# Altium schematic symbol library symbols.SchLib: 16 symbols
Pins are listed as number, name and electrical type; pins without a type are passive.

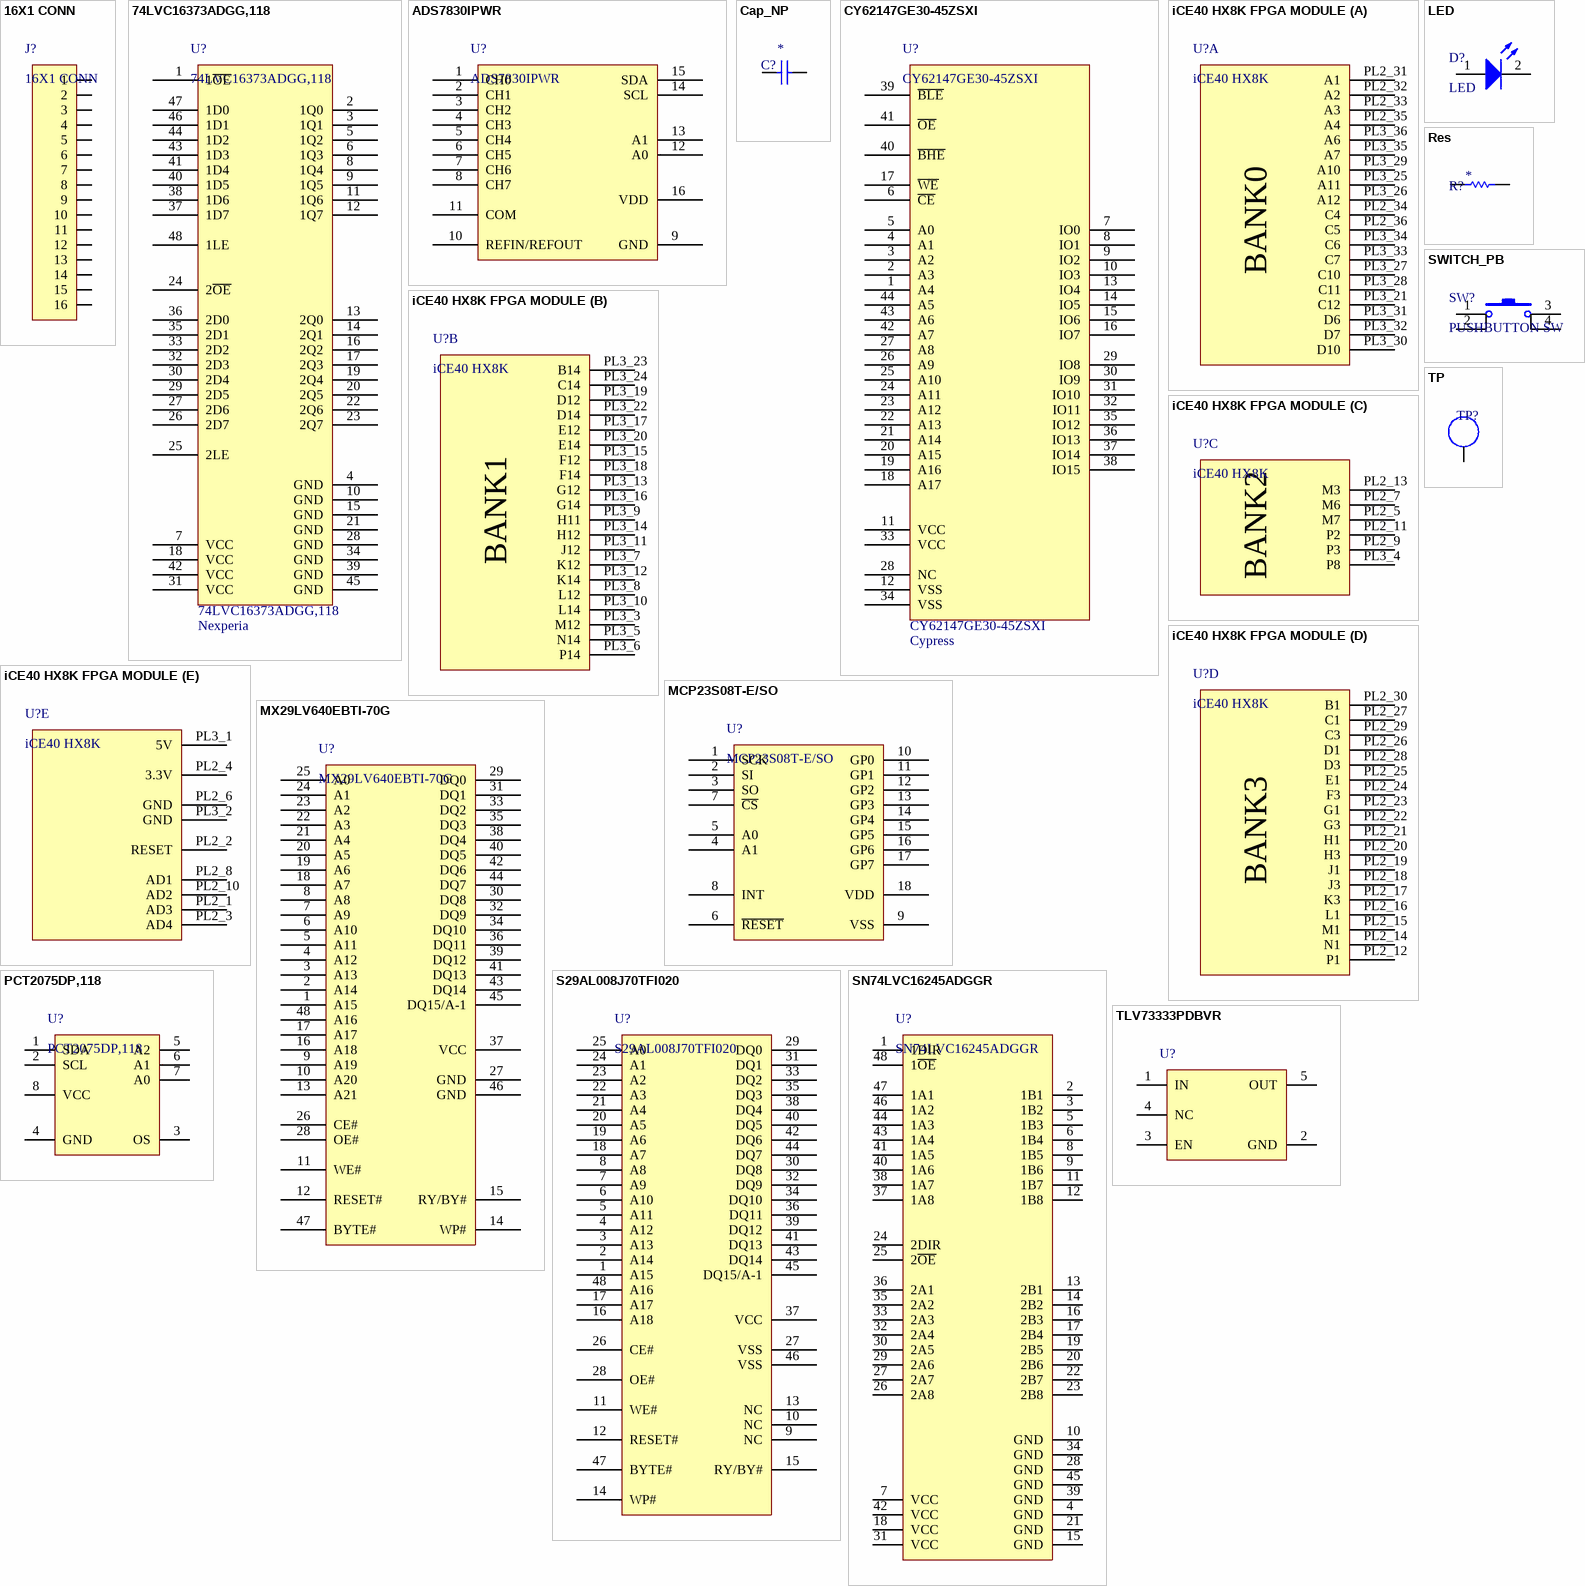
[diagram p0: symbols 16X1 CONN to TP]

## 16X1 CONN
designator J?
Manufacturer PN: *; Manufacturer: *
pins: 1, 2, 3, 4, 5, 6, 7, 8, 9, 10, 11, 12, 13, 14, 15, 16

## 74LVC16373ADGG,118
designator U?  Manufacturer: Nexperia
D-Type Transparent Latch 2 Channel 8:8 IC Tri-State 48-TSSOP; Manufacturer PN: 74LVC16373ADGG,118
pins: 1 1~{OE}, 2 1Q0, 3 1Q1, 4 GND, 5 1Q2, 6 1Q3, 7 VCC, 8 1Q4, 9 1Q5, 10 GND, 11 1Q6, 12 1Q7, 13 2Q0, 14 2Q1, 15 GND, 16 2Q2, 17 2Q3, 18 VCC, 19 2Q4, 20 2Q5, 21 GND, 22 2Q6, 23 2Q7, 24 2~{OE}, 25 2LE, 26 2D7, 27 2D6, 28 GND, 29 2D5, 30 2D4, 31 VCC, 32 2D3, 33 2D2, 34 GND, 35 2D1, 36 2D0, 37 1D7, 38 1D6, 39 GND, 40 1D5, 41 1D4, 42 VCC, 43 1D3, 44 1D2, 45 GND, 46 1D1, 47 1D0, 48 1LE

## ADS7830IPWR
designator U?
Manufacturer: Texas Instruments; Manufacturer PN: ADS7830IPWR
pins: 1 CH0, 2 CH1, 3 CH2, 4 CH3, 5 CH4, 6 CH5, 7 CH6, 8 CH7, 9 GND, 10 REFIN/REFOUT, 11 COM, 12 A0, 13 A1, 14 SCL, 15 SDA, 16 VDD

## Cap_NP
designator C?
Capacitor; Manufacturer PN: *; Manufacturer: *; Voltage: *; Tolerance: *; Capacitance: *
pins: 1, 2

## CY62147GE30-45ZSXI
designator U?  Manufacturer: Cypress
SRAM - Asynchronous Memory IC 4Mb (256K x 16) Parallel 45ns 44-TSOP II; Manufacturer PN: CY62147GE30-45ZSXI
pins: 1 A4, 2 A3, 3 A2, 4 A1, 5 A0, 6 ~{CE}, 7 IO0, 8 IO1, 9 IO2, 10 IO3, 11 VCC, 12 VSS, 13 IO4, 14 IO5, 15 IO6, 16 IO7, 17 ~{WE}, 18 A17, 19 A16, 20 A15, 21 A14, 22 A13, 23 A12, 24 A11, 25 A10, 26 A9, 27 A8, 28 NC, 29 IO8, 30 IO9, 31 IO10, 32 IO11, 33 VCC, 34 VSS, 35 IO12, 36 IO13, 37 IO14, 38 IO15, 39 ~{BLE}, 40 ~{BHE}, 41 ~{OE}, 42 A7, 43 A6, 44 A5

## iCE40 HX8K FPGA MODULE
designator U?, comment iCE40 HX8K
Manufacturer PN: 2EA SQW-118-01-L-D; Manufacturer: Samtec
part A pins: PL2_31 A1, PL2_32 A2, PL2_33 A3, PL2_34 C4, PL2_35 A4, PL2_36 C5, PL3_21 C12, PL3_25 A11, PL3_26 A12, PL3_27 C10, PL3_28 C11, PL3_29 A10, PL3_30 D10, PL3_31 D6, PL3_32 D7, PL3_33 C7, PL3_34 C6, PL3_35 A7, PL3_36 A6
part B pins: PL3_3 M12, PL3_5 N14, PL3_6 P14, PL3_7 K12, PL3_8 L12, PL3_9 H11, PL3_10 L14, PL3_11 J12, PL3_12 K14, PL3_13 G12, PL3_14 H12, PL3_15 F12, PL3_16 G14, PL3_17 E12, PL3_18 F14, PL3_19 D12, PL3_20 E14, PL3_22 D14, PL3_23 B14, PL3_24 C14
part C pins: PL2_5 M7, PL2_7 M6, PL2_9 P3, PL2_11 P2, PL2_13 M3, PL3_4 P8
part D pins: PL2_12 P1, PL2_14 N1, PL2_15 M1, PL2_16 L1, PL2_17 K3, PL2_18 J3, PL2_19 J1, PL2_20 H3, PL2_21 H1, PL2_22 G3, PL2_23 G1, PL2_24 F3, PL2_25 E1, PL2_26 D1, PL2_27 C1, PL2_28 D3, PL2_29 C3, PL2_30 B1
part E pins: PL2_1 AD3, PL2_2 RESET, PL2_3 AD4, PL2_4 3.3V, PL2_6 GND, PL2_8 AD1, PL2_10 AD2, PL3_1 5V, PL3_2 GND
part A text: BANK0
part B text: BANK1
part C text: BANK2
part D text: BANK3

## LED
designator D?
Manufacturer PN: *; Manufacturer: *; Vf: *; Color: *
pins: 1 A, 2 K

## MCP23S08T-E/SO
designator U?
Manufacturer: Microchip; Manufacturer PN: MCP23S08T-E/SO
pins: 1 SCK, 2 SI, 3 SO, 4 A1, 5 A0, 6 ~{RESET}, 7 ~{CS}, 8 INT, 9 VSS, 10 GP0, 11 GP1, 12 GP2, 13 GP3, 14 GP4, 15 GP5, 16 GP6, 17 GP7, 18 VDD

## MX29LV640EBTI-70G
designator U?
FLASH - NOR Memory IC 8Mb (1M x 8, 512K x 16) Parallel  70ns 48-TSOP; Manufacturer: Macronix; Manufacturer PN: MX29LV640EBTI-70G
pins: 1 A15, 2 A14, 3 A13, 4 A12, 5 A11, 6 A10, 7 A9, 8 A8, 9 A19, 10 A20, 11 WE#, 12 RESET#, 13 A21, 14 WP#, 15 RY/BY#, 16 A18, 17 A17, 18 A7, 19 A6, 20 A5, 21 A4, 22 A3, 23 A2, 24 A1, 25 A0, 26 CE#, 27 GND, 28 OE#, 29 DQ0, 30 DQ8, 31 DQ1, 32 DQ9, 33 DQ2, 34 DQ10, 35 DQ3, 36 DQ11, 37 VCC, 38 DQ4, 39 DQ12, 40 DQ5, 41 DQ13, 42 DQ6, 43 DQ14, 44 DQ7, 45 DQ15/A-1, 46 GND, 47 BYTE#, 48 A16

## PCT2075DP,118
designator U?
Temperature Sensor Digital, Local -55°C ~ 125°C 11 b 8-TSSOP; Manufacturer: NXP; Manufacturer PN: PCT2075DP,118
pins: 1 SDA, 2 SCL, 3 OS, 4 GND, 5 A2, 6 A1, 7 A0, 8 VCC

## Res
designator R?
Resistor; Manufacturer PN: *; Manufacturer: *; Tolerance: *; Power Rating: *; Resistance: *
pins: 1, 2

## S29AL008J70TFI020
designator U?
FLASH - NOR Memory IC 8Mb (1M x 8, 512K x 16) Parallel  70ns 48-TSOP; Manufacturer: Cypress; Manufacturer PN: S29AL008J70TFI020
pins: 1 A15, 2 A14, 3 A13, 4 A12, 5 A11, 6 A10, 7 A9, 8 A8, 9 NC, 10 NC, 11 WE#, 12 RESET#, 13 NC, 14 WP#, 15 RY/BY#, 16 A18, 17 A17, 18 A7, 19 A6, 20 A5, 21 A4, 22 A3, 23 A2, 24 A1, 25 A0, 26 CE#, 27 VSS, 28 OE#, 29 DQ0, 30 DQ8, 31 DQ1, 32 DQ9, 33 DQ2, 34 DQ10, 35 DQ3, 36 DQ11, 37 VCC, 38 DQ4, 39 DQ12, 40 DQ5, 41 DQ13, 42 DQ6, 43 DQ14, 44 DQ7, 45 DQ15/A-1, 46 VSS, 47 BYTE#, 48 A16

## SN74LVC16245ADGGR
designator U?
Transceiver, Non-Inverting 2 Element 8 Bit per Element 3-State Output 48-TSSOP; Manufacturer: Texas Instruments; Manufacturer PN: SN74LVC16245ADGGR
pins: 1 1DIR, 2 1B1, 3 1B2, 4 GND, 5 1B3, 6 1B4, 7 VCC, 8 1B5, 9 1B6, 10 GND, 11 1B7, 12 1B8, 13 2B1, 14 2B2, 15 GND, 16 2B3, 17 2B4, 18 VCC, 19 2B5, 20 2B6, 21 GND, 22 2B7, 23 2B8, 24 2DIR, 25 2~{OE}, 26 2A8, 27 2A7, 28 GND, 29 2A6, 30 2A5, 31 VCC, 32 2A4, 33 2A3, 34 GND, 35 2A2, 36 2A1, 37 1A8, 38 1A7, 39 GND, 40 1A6, 41 1A5, 42 VCC, 43 1A4, 44 1A3, 45 GND, 46 1A2, 47 1A1, 48 1~{OE}

## SWITCH_PB
designator SW?, comment PUSHBUTTON SW
Manufacturer PN: *; Manufacturer: *
pins: 1, 2, 3, 4

## TLV73333PDBVR
designator U?  (value not drawn)
Manufacturer: Texas Instruments; Manufacturer PN: TLV73333PDBVR
pins: 1 IN, 2 GND, 3 EN, 4 NC, 5 OUT

## TP
designator TP?, comment TEST POINT  (value not drawn)
Manufacturer PN: 5015; Manufacturer: Keystone
pins: 1